# Altium footprint library 10118194-0001LF.PcbLib: 1 footprints
Each footprint in its own frame and in the unit in brackets; x right, y up, seen from the top. Pads: shape width x height; smd on the part's side, far side on the other; paste and mask are expansions set on the pad; w line width, h text height; cw(c..) or ccw(c..) is an arc to the next point about the centre after c.
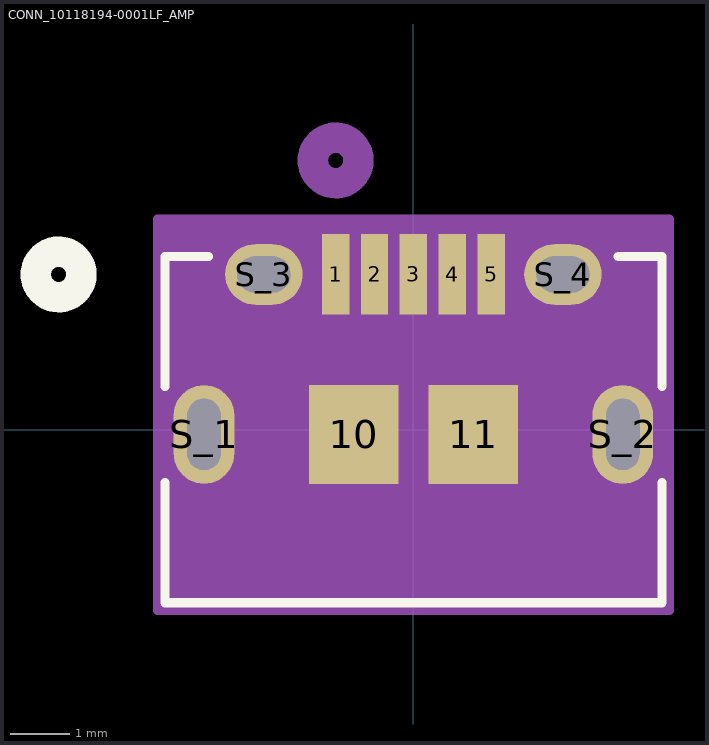
[diagram p0: the footprint, top view; thin cyan lines are the x and y axes]

## CONN_10118194-0001LF_AMP [mil]
pads (11):
  rect 18x53 smd paste+0 mask+0: 1(-51.18,102.11) 2(-25.59,102.11) 3(0,102.11) 4(25.59,102.11) 5(51.18,102.11)
  rect 59x65 smd paste-32.5 mask-32.5: 10(-39.37,-3.2) 11(39.37,-3.2)
  oval 40x65 hole 22 slot 47 at 90 deg paste-32.5 mask+0: S_1(-137.8,-3.2) S_2(137.8,-3.2)
  oval 51x40 hole 24 slot 35 at 0 deg paste-25.5 mask+0: S_3(-98.43,102.11) S_4(98.43,102.11)
Top Overlay:
  circle w20: c-233.5,102.11 r15
  lines w6: -163.5,-34.81 -163.5,-114 163.5,-114 163.5,-34.81 ; -163.5,28.4 -163.5,114 -134.78,114 ; 134.78,114 163.5,114 163.5,28.4
  text ".Designator" at -137.5,77.11 h50
Bottom Overlay:
  circle w20: c-233.5,102.11 r15
Mechanical 13:
  circle w20: c-51.18,177.11 r15
  lines w1: -158.5,-109 158.5,-109 158.5,109 -158.5,109 -158.5,-109
  text ".Designator" at -137.5,77.11 h50
Mechanical 15:
  region: 168.5,138.61 -168.5,138.61 -168.5,-119 168.5,-119
  lines w6: -168.5,-119 -168.5,138.61 168.5,138.61 168.5,-119 -168.5,-119